# Altium schematic symbol library wurth-mag.SchLib: 5 symbols
Pins are listed as number, name and electrical type; pins without a type are passive.

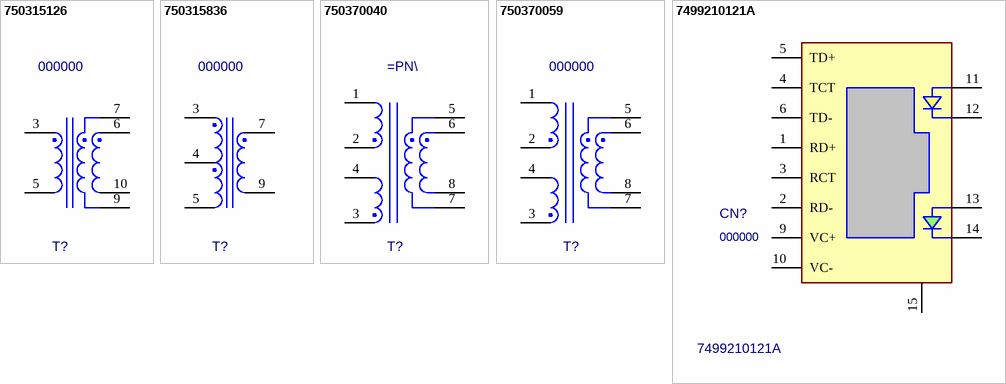
[diagram p0: symbols 750315126 to 7499210121A]

## 750315126
designator T?, comment 000000
SMD Transformer; Value: 750315126; MF: Wurth; PN: 000000; ExtraInfo: *; Digi-Key PN: 1297-1194-1-ND; MF PN: 750315126; Price: 3.47870
footprint 75031583X (SMD Transformer 17.75x13.46x12.7mm)
pins: 3, 5, 6, 7, 9, 10

## 750315836
designator T?, comment 000000
SMD Transformer; Value: 750315836; MF: Wurth; PN: 000000; ExtraInfo: *; Package: *
footprint 75031583X (SMD Transformer 17.75x13.46x12.7mm)
pins: 3, 4, 5, 7, 9

## 750370040
designator T?
SMD Transformer; Value: 750370040; PN: 000000; MF: Wurth; ExtraInfo: *
footprint 75037004X (SMD Transformer 9.14x9.78x10.54mm)
pins: 1, 2, 3, 4, 5, 6, 7, 8

## 750370059
designator T?, comment 000000
SMD Transformer; Value: 750370059; MF: Wurth; PN: 000000; ExtraInfo: *; Package: *
footprint 75037005X (SMD Transformer 13.35x10.8x9.14mm)
pins: 1, 2, 3, 4, 5, 6, 7, 8

## 7499210121A
designator CN?, comment 000000  value 7499210121A
10/100Base-TX PoE RJ45; MF: Wurth; Package: PTH; PN: 000000; ExtraInfo: *; MF PN: 7499210121A; Digi-Key PN: 732-4974-ND; Price: 8.76748
footprint 7499210121A (Modular Jack, Right Angle PTH)
pins: 1 RD+, 2 RD-, 3 RCT, 4 TCT, 5 TD+, 6 TD-, 9 VC+, 10 VC-, 11 A2, 12 K2, 13 A1, 14 K1, 15 SHIELD